# Altium footprint library HAB_Lib.PcbLib: 104 footprints (part 5 of 7)
Each footprint in its own frame and in the unit in brackets; x right, y up, seen from the top. Pads: shape width x height; smd on the part's side, far side on the other; paste and mask are expansions set on the pad; w line width, h text height; cw(c..) or ccw(c..) is an arc to the next point about the centre after c.
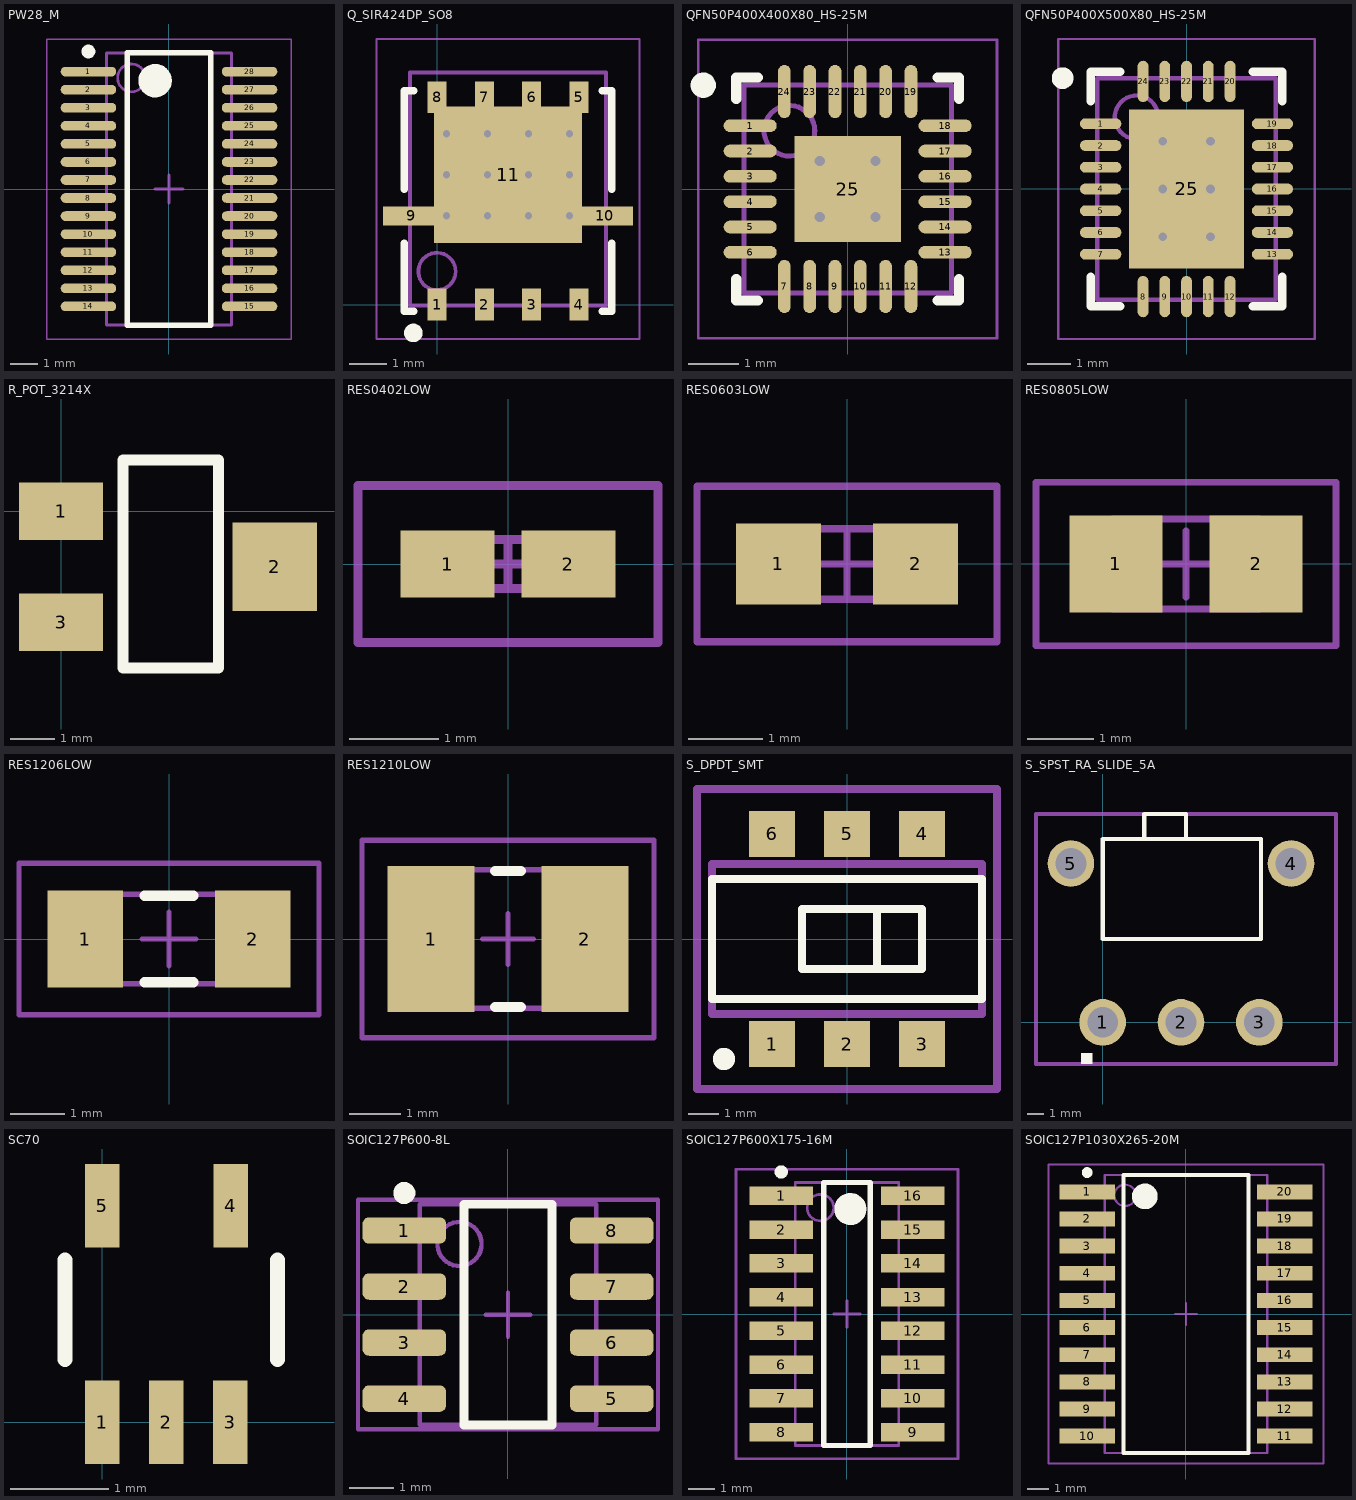
[diagram p4: the footprints below, top view; thin cyan lines are the x and y axes]

## PW28_M [mm] "TSOP, 28-Leads, Body 9.7x4.4mm, Pitch 0.65mm, IPC Low Density"
height 1.2
pads (28):
  oval 2x0.35 smd: 1(-2.9,4.225) 2(-2.9,3.575) 3(-2.9,2.925) 4(-2.9,2.275) 5(-2.9,1.625) 6(-2.9,0.975) 7(-2.9,0.325) 8(-2.9,-0.325) 9(-2.9,-0.975) 10(-2.9,-1.625) 11(-2.9,-2.275) 12(-2.9,-2.925) 13(-2.9,-3.575) 14(-2.9,-4.225) 15(2.9,-4.225) 16(2.9,-3.575) 17(2.9,-2.925) 18(2.9,-2.275) 19(2.9,-1.625) 20(2.9,-0.975) 21(2.9,-0.325) 22(2.9,0.325) 23(2.9,0.975) 24(2.9,1.625) 25(2.9,2.275) 26(2.9,2.925) 27(2.9,3.575) 28(2.9,4.225)
Top Overlay:
  circle w0.6: c-0.5,3.9 r0.3
  circle w0.25: c-2.9,4.95 r0.125
  lines w0.2: -1.5,-4.9 1.5,-4.9 1.5,4.9 -1.5,4.9 -1.5,-4.9
Mechanical 13:
  circle w0.1: c-1.35,4 r0.5
  lines w0.1: -2.25,-4.9 2.25,-4.9 2.25,4.9 -2.25,4.9 -2.25,-4.9
Mechanical 15:
  lines w0.05: -4.4,-5.4 4.4,-5.4 4.4,5.4 -4.4,5.4 -4.4,-5.4
  lines w0.1: -0.5,0 0.5,0 ; 0,-0.5 0,0.5
3D body: height 1.2, standoff 0.05, extent -2.25,-4.9 2.25,4.9

## Q_SIR424DP_SO8 [mm] "QFN, 10-Leads, Body 5.15x6.15mm, Pitch 1.27mm, Thermal Pad 3.98x3.66mm, IPC Low Density"
height 1.12
pads (11):
  rect 0.51x0.85 smd: 1(0,0) 2(1.27,0) 3(2.54,0) 4(3.81,0) 5(3.81,5.565) 6(2.54,5.565) 7(1.27,5.565) 8(0,5.565)
  rect 1.5x0.51 smd: 9(-0.695,2.382) 10(4.505,2.382)
  rect 3.98x3.66 smd: 11(1.905,3.481)
via 0.255,4.581 diameter 0.5 hole 0.2
via 1.355,4.581 diameter 0.5 hole 0.2
via 2.455,4.581 diameter 0.5 hole 0.2
via 3.555,4.581 diameter 0.5 hole 0.2
via 0.255,3.481 diameter 0.5 hole 0.2
via 1.355,3.481 diameter 0.5 hole 0.2
via 2.455,3.481 diameter 0.5 hole 0.2
via 3.555,3.481 diameter 0.5 hole 0.2
via 0.255,2.381 diameter 0.5 hole 0.2
via 1.355,2.381 diameter 0.5 hole 0.2
via 2.455,2.381 diameter 0.5 hole 0.2
via 3.555,2.381 diameter 0.5 hole 0.2
Top Overlay:
  circle w0.25: c-0.635,-0.762 r0.125
  lines w0.2: -0.875,1.651 -0.875,-0.175 -0.625,-0.175 ; -0.875,3.09 -0.875,5.74 -0.625,5.74 ; 4.435,-0.175 4.685,-0.175 4.685,1.651 ; 4.435,5.74 4.685,5.74 4.685,3.09
Mechanical 13:
  circle w0.1: c0,0.889 r0.5
  lines w0.1: -0.725,-0.025 4.535,-0.025 4.535,6.225 -0.725,6.225 -0.725,-0.025
Mechanical 15:
  lines w0.05: -1.62,-0.925 5.43,-0.925 5.43,7.125 -1.62,7.125 -1.62,-0.925
  lines w0.1: 1.405,3.1 2.405,3.1 ; 1.905,2.6 1.905,3.6
3D body "QFN127P515X615X112_HS-11M.step": height 1.12, standoff 0, extent -0.745,-0.045 4.555,6.245

## QFN50P400X400X80_HS-25M [mm] "QFN, 24-Leads, Body 4.00x4.00mm, Pitch 0.50mm, Thermal Pad 2.10x2.10mm, IPC Low Density"
height 0.8
pads (25):
  oval 1.05x0.25 smd: 1(-1.925,1.25) 2(-1.925,0.75) 3(-1.925,0.25) 4(-1.925,-0.25) 5(-1.925,-0.75) 6(-1.925,-1.25) 13(1.925,-1.25) 14(1.925,-0.75) 15(1.925,-0.25) 16(1.925,0.25) 17(1.925,0.75) 18(1.925,1.25)
  oval 0.25x1.05 smd: 7(-1.25,-1.925) 8(-0.75,-1.925) 9(-0.25,-1.925) 10(0.25,-1.925) 11(0.75,-1.925) 12(1.25,-1.925) 19(1.25,1.925) 20(0.75,1.925) 21(0.25,1.925) 22(-0.25,1.925) 23(-0.75,1.925) 24(-1.25,1.925)
  rect 2.1x2.1 smd: 25(0,0)
via -0.55,0.55 diameter 0.5 hole 0.2
via 0.55,0.55 diameter 0.5 hole 0.2
via -0.55,-0.55 diameter 0.5 hole 0.2
via 0.55,-0.55 diameter 0.5 hole 0.2
Top Overlay:
  circle w0.25: c-2.85,2.05 r0.125
  lines w0.2: -2.2,-1.775 -2.2,-2.2 -1.775,-2.2 ; -2.2,1.775 -2.2,2.2 -1.775,2.2 ; 1.775,-2.2 2.2,-2.2 2.2,-1.775 ; 1.775,2.2 2.2,2.2 2.2,1.775
Mechanical 13:
  circle w0.1: c-1.15,1.15 r0.5
  lines w0.1: -2.05,-2.05 -2.05,2.05 2.05,2.05 2.05,-2.05 -2.05,-2.05
Mechanical 15:
  lines w0.05: -2.95,-2.95 -2.95,2.95 2.95,2.95 2.95,-2.95 -2.95,-2.95
  lines w0.1: -0.5,0 0.5,0 ; 0,-0.5 0,0.5
3D body "QFN50P400X400X80_HS-25M.step": height 0.8, standoff 0, extent -2.07,-2.07 2.07,2.07

## QFN50P400X500X80_HS-25M [mm] "QFN, 24-Leads, Body 4.00x5.00mm, Pitch 0.50mm, Thermal Pad 2.65x3.65mm, IPC Low Density"
height 0.8
pads (25):
  oval 0.95x0.25 smd: 1(-1.975,1.5) 2(-1.975,1) 3(-1.975,0.5) 4(-1.975,0) 5(-1.975,-0.5) 6(-1.975,-1) 7(-1.975,-1.5) 13(1.975,-1.5) 14(1.975,-1) 15(1.975,-0.5) 16(1.975,0) 17(1.975,0.5) 18(1.975,1) 19(1.975,1.5)
  oval 0.25x0.95 smd: 8(-1,-2.475) 9(-0.5,-2.475) 10(0,-2.475) 11(0.5,-2.475) 12(1,-2.475) 20(1,2.475) 21(0.5,2.475) 22(0,2.475) 23(-0.5,2.475) 24(-1,2.475)
  rect 2.65x3.65 smd: 25(0,0)
via -0.55,1.1 diameter 0.5 hole 0.2
via 0.55,1.1 diameter 0.5 hole 0.2
via -0.55,0 diameter 0.5 hole 0.2
via 0.55,0 diameter 0.5 hole 0.2
via -0.55,-1.1 diameter 0.5 hole 0.2
via 0.55,-1.1 diameter 0.5 hole 0.2
Top Overlay:
  circle w0.25: c-2.85,2.55 r0.125
  lines w0.2: -2.2,-2.025 -2.2,-2.7 -1.525,-2.7 ; -2.2,2.025 -2.2,2.7 -1.525,2.7 ; 1.525,-2.7 2.2,-2.7 2.2,-2.025 ; 1.525,2.7 2.2,2.7 2.2,2.025
Mechanical 13:
  circle w0.1: c-1.15,1.65 r0.5
  lines w0.1: -2.05,-2.55 -2.05,2.55 2.05,2.55 2.05,-2.55 -2.05,-2.55
Mechanical 15:
  lines w0.05: -2.95,-3.45 -2.95,3.45 2.95,3.45 2.95,-3.45 -2.95,-3.45
  lines w0.1: -0.5,0 0.5,0 ; 0,-0.5 0,0.5
3D body "QFN50P400X500X80_HS-25M.step": height 0.8, standoff 0, extent -2.07,-2.57 2.07,2.57

## R_POT_3214X [mm]
height 5.3
pads (3):
  rect 1.9x1.3 smd: 1(0,0) 3(0,-2.5)
  rect 1.9x2 smd: 2(4.826,-1.25)
Top Overlay:
  lines w0.254: 1.397,-3.536 1.397,1.163 3.556,1.163 3.556,-3.536 1.397,-3.536

## RES0402LOW [mm] "Chip Resistor, 2-Leads, 0402, IPC Low Density"
height 0.4
pads (2):
  rect 1.05x0.75 smd: 1(-0.675,0) 2(0.675,0)
Mechanical 13:
  lines w0.1: -0.525,-0.275 -0.525,0.275 0.525,0.275 0.525,-0.275 -0.525,-0.275
Mechanical 15:
  lines w0.1: -0.275,0 0.275,0 ; 0,-0.275 0,0.275 ; -1.675,-0.875 -1.675,0.875 1.675,0.875 1.675,-0.875 -1.675,-0.875
3D body: height 0.4, standoff 0, extent -0.525,-0.275 0.525,0.275

## RES0603LOW [mm] "Chip Resistor, 2-Leads, 0603, IPC Low Density"
height 0.55
pads (2):
  rect 1.15x1.1 smd: 1(-0.925,0) 2(0.925,0)
Mechanical 13:
  lines w0.1: -0.875,-0.475 -0.875,0.475 0.875,0.475 0.875,-0.475 -0.875,-0.475
Mechanical 15:
  lines w0.1: -0.475,0 0.475,0 ; 0,-0.475 0,0.475 ; -2.025,-1.05 -2.025,1.05 2.025,1.05 2.025,-1.05 -2.025,-1.05
3D body: height 0.55, standoff 0, extent -0.875,-0.475 0.875,0.475

## RES0805LOW [mm] "Chip Resistor, 2-Leads, 0805, IPC Low Density"
height 0.7
pads (2):
  rect 1.4x1.45 smd: 1(-1.05,0) 2(1.05,0)
Mechanical 13:
  lines w0.1: -1.1,-0.675 1.1,-0.675 1.1,0.675 -1.1,0.675 -1.1,-0.675
Mechanical 15:
  lines w0.1: -0.5,0 0.5,0 ; 0,-0.5 0,0.5 ; -2.25,-1.225 2.25,-1.225 2.25,1.225 -2.25,1.225 -2.25,-1.225
3D body: height 0.7, standoff 0, extent -1.1,-0.675 1.1,0.675

## RES1206LOW [mm] "C1206 hip Resistor, 2-Leads, Body 3.1x1.6mm, IPC Low Density"
height 0.7
pads (2):
  rect 1.4x1.8 smd: 1(-1.55,0) 2(1.55,0)
Top Overlay:
  lines w0.2: -0.45,-0.8 0.45,-0.8 ; -0.45,0.8 0.45,0.8
Mechanical 13:
  lines w0.1: -1.625,-0.825 -1.625,0.825 1.625,0.825 1.625,-0.825 -1.625,-0.825
Mechanical 15:
  lines w0.1: -0.5,0 0.5,0 ; 0,-0.5 0,0.5 ; -2.775,-1.4 -2.775,1.4 2.775,1.4 2.775,-1.4 -2.775,-1.4
3D body: height 0.7, standoff 0, extent -1.625,-0.825 1.625,0.825

## RES1210LOW [mm] "Chip Resistor, 2-Leads, Body 3.3x2.6mm, IPC Low Density"
height 0.7
pads (2):
  rect 1.7x2.85 smd: 1(-1.5,0) 2(1.5,0)
Top Overlay:
  lines w0.2: -0.25,-1.325 0.25,-1.325 ; -0.25,1.325 0.25,1.325
Mechanical 13:
  lines w0.1: -1.7,-1.35 -1.7,1.35 1.7,1.35 1.7,-1.35 -1.7,-1.35
Mechanical 15:
  lines w0.1: -0.5,0 0.5,0 ; 0,-0.5 0,0.5 ; -2.85,-1.925 -2.85,1.925 2.85,1.925 2.85,-1.925 -2.85,-1.925
3D body: height 0.7, standoff 0, extent -1.7,-1.35 1.7,1.35

## S_DPDT_SMT [mil] "SWITCH SLIDE DPDT 6VDC 0.3A SMT"
height 137.8
pads (6):
  rect 60x60 smd: 1(-98.43,-137.8) 2(0,-137.8) 3(98.43,-137.8) 4(98.43,137.8) 5(0,137.8) 6(-98.43,137.8)
Top Overlay:
  circle w21.26: c-161.42,-157.48 r3.94
  lines w10: 39.37,-39.37 39.37,39.37 ; -177.17,-78.74 177.17,-78.74 177.17,78.74 -177.17,78.74 -177.17,-78.74 ; -59.06,-39.37 98.43,-39.37 98.43,39.37 -59.06,39.37 -59.06,-39.37
Mechanical 13:
  lines w10: -177.17,-98.43 177.17,-98.43 177.17,98.43 -177.17,98.43 -177.17,-98.43
Mechanical 15:
  lines w10: -196.85,-196.85 196.85,-196.85 196.85,196.85 -196.85,196.85 -196.85,-196.85
3D body: height 137.8, standoff 0, extent -182.17,-103.43 182.17,103.43

## S_SPST_RA_SLIDE_5A [mm]
height 6.6
pads (5):
  round 2.8 hole 1.85: 1(0,0) 2(4.7,0) 3(9.4,0) 4(11.305,9.53) 5(-1.905,9.53)
Top Overlay:
  region: -1.27,-1.841 -1.27,-2.476 -0.635,-2.476 -0.635,-1.841
  lines w0.254: 2.5,11 2.5,12.5 5,12.5 5,11 ; 0,5 9.5,5 9.5,11 0,11 0,5
Mechanical 15:
  lines w0.254: -4,-2.5 -4,12.5 14,12.5 14,-2.5 -4,-2.5

## SC70 [mm]
height 1.5
pads (5):
  rect 0.35x0.85 smd: 1(0,0) 2(0.65,0) 3(1.3,0) 4(1.305,2.2) 5(0,2.2)
Top Overlay:
  lines w0.152: -0.381,0.635 -0.381,1.651 ; 1.778,0.635 1.778,1.651

## SOIC127P600-8L [mm] "SOIC, 8-Leads, Body 4.9x3.9mm, Pitch 1.27mm, IPC High Density"
height 1.75
pads (8):
  rrect50% 1.9x0.6 smd: 1(-2.35,1.905) 2(-2.35,0.635) 3(-2.35,-0.635) 4(-2.35,-1.905) 5(2.35,-1.905) 6(2.35,-0.635) 7(2.35,0.635) 8(2.35,1.905)
Top Overlay:
  circle w0.25: c-2.35,2.755 r0.125
  lines w0.2: -1,-2.5 -1,2.5 1,2.5 1,-2.5 -1,-2.5
Mechanical 13:
  circle w0.1: c-1.1,1.6 r0.5
  lines w0.1: -2,-2.5 -2,2.5 2,2.5 2,-2.5 -2,-2.5
Mechanical 15:
  lines w0.1: -0.5,0 0.5,0 ; 0,-0.5 0,0.5 ; -3.4,-2.6 -3.4,2.6 3.4,2.6 3.4,-2.6 -3.4,-2.6
3D body: height 1.75, standoff 0, extent -2,-2.5 2,2.5

## SOIC127P600X175-16M [mm] "SOIC, 16-Leads, Body 9.9x3.9mm (max), Pitch 1.27mm, IPC Low Density"
height 1.75
pads (16):
  rect 2.4x0.7 smd: 1(-2.475,4.445) 2(-2.475,3.175) 3(-2.475,1.905) 4(-2.475,0.635) 5(-2.475,-0.635) 6(-2.475,-1.905) 7(-2.475,-3.175) 8(-2.475,-4.445) 9(2.475,-4.445) 10(2.475,-3.175) 11(2.475,-1.905) 12(2.475,-0.635) 13(2.475,0.635) 14(2.475,1.905) 15(2.475,3.175) 16(2.475,4.445)
Top Overlay:
  circle w0.6: c0.125,3.95 r0.3
  circle w0.25: c-2.475,5.345 r0.125
  lines w0.2: -0.875,-4.95 0.875,-4.95 0.875,4.95 -0.875,4.95 -0.875,-4.95
Mechanical 13:
  circle w0.1: c-1,4 r0.5
  lines w0.1: -1.95,-4.95 1.95,-4.95 1.95,4.95 -1.95,4.95 -1.95,-4.95
Mechanical 15:
  lines w0.1: -0.5,0 0.5,0 ; 0,-0.5 0,0.5 ; -4.175,-5.45 4.175,-5.45 4.175,5.45 -4.175,5.45 -4.175,-5.45
3D body: height 1.75, standoff 0.1, extent -1.95,-4.95 1.95,4.95

## SOIC127P1030X265-20M [mm] "SOIC, 20-Leads, Body 13.0x7.6mm (max), Pitch 1.27mm, IPC Low Density"
height 2.65
pads (20):
  rect 2.6x0.7 smd: 1(-4.625,5.715) 2(-4.625,4.445) 3(-4.625,3.175) 4(-4.625,1.905) 5(-4.625,0.635) 6(-4.625,-0.635) 7(-4.625,-1.905) 8(-4.625,-3.175) 9(-4.625,-4.445) 10(-4.625,-5.715) 11(4.625,-5.715) 12(4.625,-4.445) 13(4.625,-3.175) 14(4.625,-1.905) 15(4.625,-0.635) 16(4.625,0.635) 17(4.625,1.905) 18(4.625,3.175) 19(4.625,4.445) 20(4.625,5.715)
Top Overlay:
  circle w0.25: c-4.625,6.615 r0.125
  circle w0.6: c-1.925,5.5 r0.3
  lines w0.2: -2.925,-6.5 -2.925,6.5 2.925,6.5 2.925,-6.5 -2.925,-6.5
Mechanical 13:
  circle w0.1: c-2.85,5.55 r0.5
  lines w0.1: -3.8,-6.5 -3.8,6.5 3.8,6.5 3.8,-6.5 -3.8,-6.5
Mechanical 15:
  lines w0.1: -0.5,0 0.5,0 ; 0,-0.5 0,0.5 ; -6.425,-7 -6.425,7 6.425,7 6.425,-7 -6.425,-7
3D body: height 2.65, standoff 0.1, extent -3.8,-6.5 3.8,6.5